# EAGLE library part LM311NG (library On Semiconductor)
Single Comparators
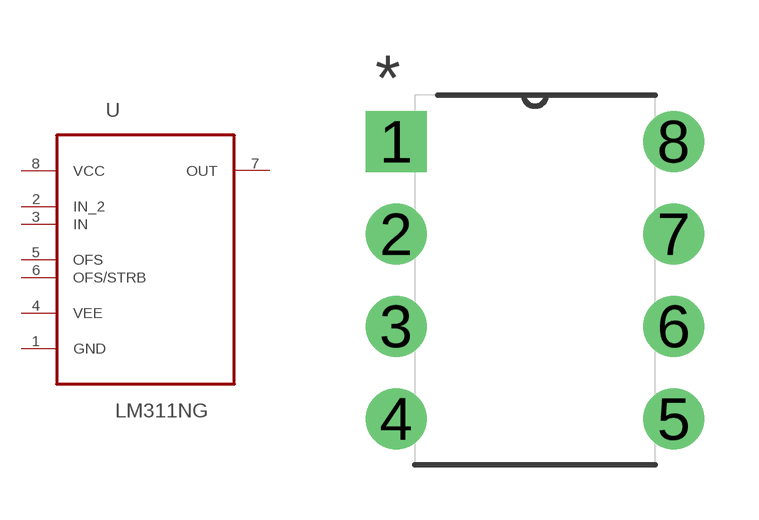
[diagram p52: symbol with the pads of DIP254P762X445-8; footprint DIP254P762X445-8]

Designator prefix U

## LM311NG (MPN: LM311NG; OC_FARNELL: 1214465; OC_NEWARK: 45J0734; PACKAGE: PDIP; SUPPLIER: ON SEMICONDUCTOR)  [DIP254P762X445-8]
1  GND  pas
2  IN_2  in
3  IN  in
4  VEE  pwr
5  OFS  pas
6  OFS/STRB  pas
7  OUT  out
8  VCC  pwr

## Footprint DIP254P762X445-8 (pad centres in mm)
drill 1.118 square: 1 -7.62,7.62
drill 1.118: 2 -7.62,5.08; 3 -7.62,2.54; 4 -7.62,0; 5 0,0; 6 0,2.54; 7 0,5.08; 8 0,7.62